# EAGLE library part PIN2X8 (library DSS0)
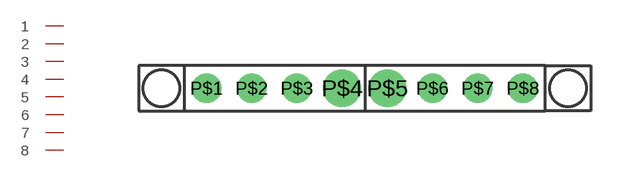
[diagram p12: symbol with the pads of PIN2X8; footprint PIN2X8]

Designator prefix -

## PIN2X8  [PIN2X8]
P$1  1
P$2  2
P$3  3
P$4  4
P$5  5
P$6  6
P$7  7
P$8  8

## Footprint PIN2X8 (pad centres in mm)
drill 0.8: P$1 -7,0; P$2 -5,0; P$3 -3,0; P$6 3,0; P$7 5,0; P$8 7,0
drill 0.8 pad 1.676: P$4 -1,0; P$5 1,0